# Altium footprint library PcbLib1.PcbLib: 11 footprints
Each footprint in its own frame and in the unit in brackets; x right, y up, seen from the top. Pads: shape width x height; smd on the part's side, far side on the other; paste and mask are expansions set on the pad; w line width, h text height; cw(c..) or ccw(c..) is an arc to the next point about the centre after c.
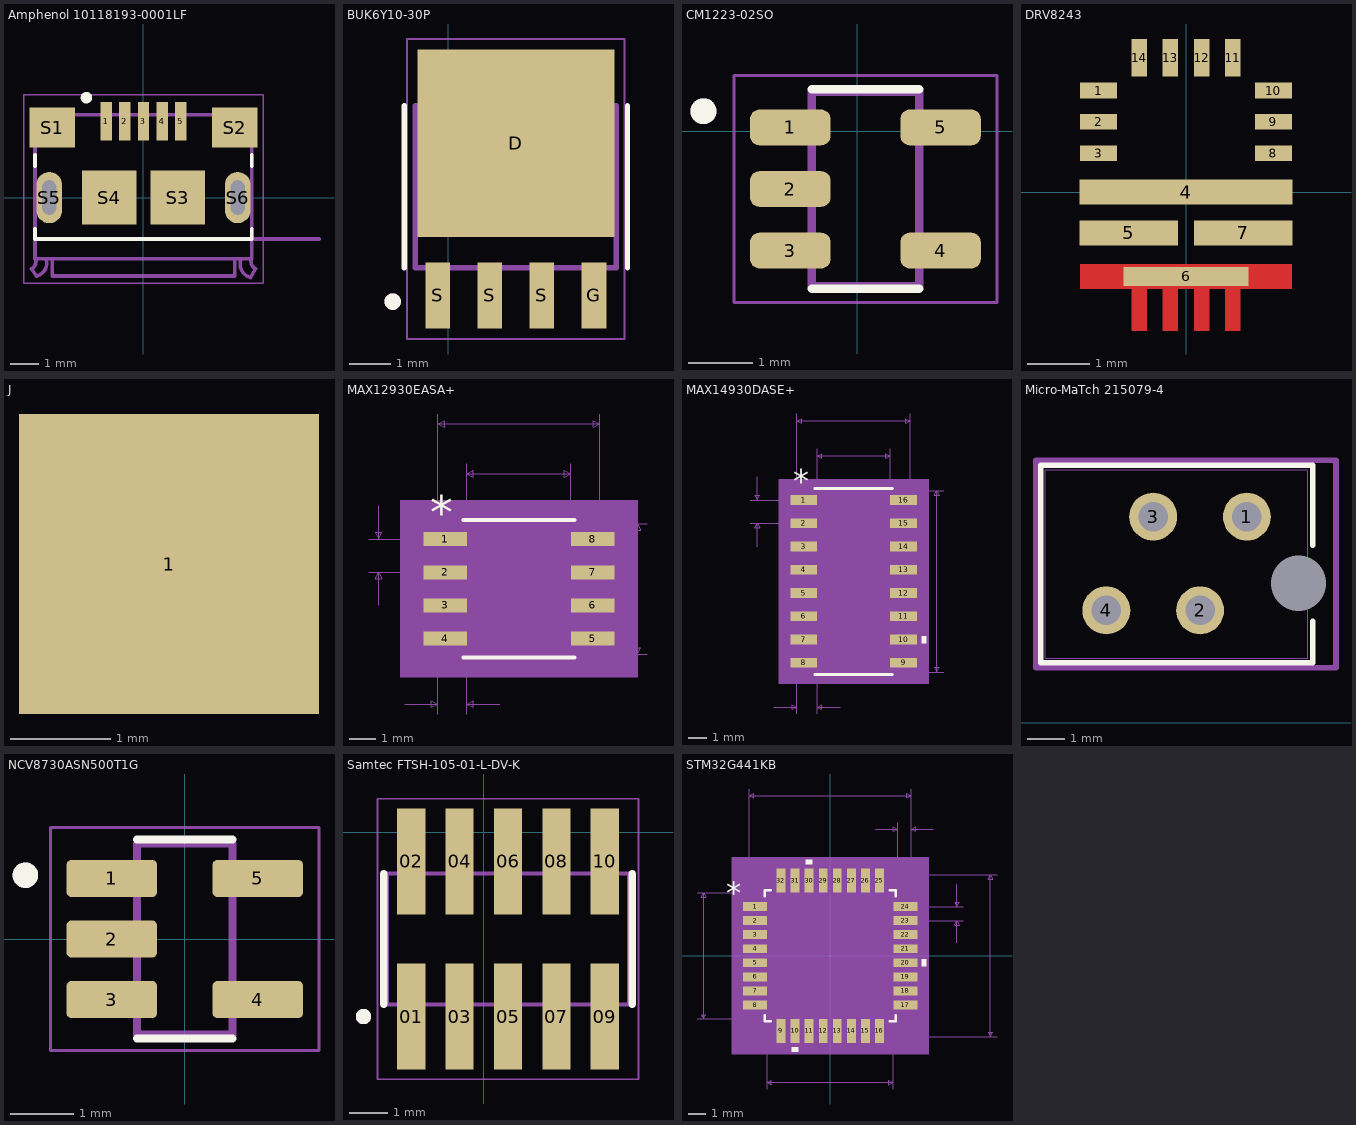
[diagram p0: the footprints below, top view; thin cyan lines are the x and y axes]

## Amphenol 10118193-0001LF [mm] "USB connector"
pads (13):
  rect 0.4x1.35 smd: 1(-1.3,2.675) 2(-0.65,2.675) 3(0,2.675) 4(0.65,2.675) 5(1.3,2.675)
  rect 1.6x1.4 smd: S1(-3.2,2.45) S2(3.2,2.45)
  rect 1.9x1.9 smd: S3(1.2,0) S4(-1.2,0)
  oval 0.9x1.8 hole 0.5 slot 1.2 at 90 deg: S5(-3.3,0) S6(3.3,0)
  round 0.5 hole 0.5 unplated: ""(-3.3,0) ""(3.3,0)
Top Overlay:
  circle w0.2: c-2,3.5 r0.1
  lines w0.127: -3.8,-1.45 3.8,-1.45 ; -3.8,-1.4 -3.8,-1.1 ; -3.8,1.1 -3.8,1.5 ; 3.8,-1.4 3.8,-1.1 ; 3.8,1.1 3.8,1.5
Mechanical 13:
  lines w0.127: -3.93,-2.5 -3.75,-2.75 ; -3.93,-2.5 ccw(c-4.065,-2.235) -3.8,-2.1 ; -3.746,-2.749 ccw(c-3.85,-2.3) -3.401,-2.196 ; -3.2,-2.2 -3.2,-2.75 3.2,-2.75 3.2,-2.2 ; 3.401,-2.198 ccw(c3.875,-2.325) 3.748,-2.799 ; 3.75,-2.8 3.93,-2.5 ; 3.8,-2.1 ccw(c4.065,-2.235) 3.93,-2.5 ; 6.15,-1.45 3.8,-1.45 ; -3.8,-2.1 -3.8,-2.15 3.8,-2.15 3.8,-1.45 ; -3.8,-2.1 -3.8,2.9 3.8,2.9 3.8,-1.45
  text "PCB END" at 4.75,-1.3 h0.41
Mechanical 15:
  lines w0.05: -4.2,-3 -4.2,3.6 4.2,3.6 4.2,-3 -4.2,-3
3D body "10118193-0001LF--3DModel-STEP-56544.STEP": height 2.81, standoff -0.79, extent -4.064,-2.789 3.796,2.921

## BUK6Y10-30P [mm]
pads (5):
  rect 4.8x4.58 smd paste-3: D(1.651,19.602)
  rect 0.6x1.62 smd: G(3.556,15.892) S(-0.254,15.892) S(1.016,15.892) S(2.286,15.892)
Top Overlay:
  circle w0.2: c-1.349,15.742 r0.1
  lines w0.127: -1.069,16.567 -1.069,20.517 ; 4.371,16.567 4.371,20.517
Top Paste:
  region: 3.621,17.742 2.081,17.742 2.081,19.172 3.621,19.172
  region: 1.221,17.742 -0.319,17.742 -0.319,19.172 1.221,19.172
  region: 3.621,20.032 2.081,20.032 2.081,21.462 3.621,21.462
  region: 1.221,20.032 -0.319,20.032 -0.319,21.462 1.221,21.462
Mechanical 13:
  circle w0.2: c-1.349,15.742 r0.1
  lines w0.127: -0.799,16.567 4.101,16.567 4.101,20.517 -0.799,20.517 -0.799,16.567
Mechanical 15:
  lines w0.05: -0.999,14.832 4.301,14.832 4.301,22.142 -0.999,22.142 -0.999,14.832

## CM1223-02SO [mm]
pads (5):
  rrect50% 1.24x0.55 smd: 1(-1.033,0.061) 2(-1.033,-0.889) 3(-1.033,-1.839) 4(1.287,-1.839) 5(1.287,0.061)
Top Overlay:
  circle w0.2: c-2.373,0.311 r0.1
  lines w0.127: -0.703,-2.428 0.957,-2.428 ; -0.703,0.65 0.957,0.65
Mechanical 13:
  circle w0.2: c-2.373,0.311 r0.1
  lines w0.127: -0.703,-2.389 0.957,-2.389 0.957,0.611 -0.703,0.611 -0.703,-2.389
Mechanical 15:
  lines w0.05: -1.903,-2.639 2.157,-2.639 2.157,0.861 -1.903,0.861 -1.903,-2.639
3D body "CM1223-02SO.STEP": height 1.31, standoff -0.14, extent -1.275,-2.35 1.525,0.55

## DRV8243 [mm]
pads (14):
  rect 0.6x0.25 smd: 1(-1.4,1.625) 2(-1.4,1.125) 3(-1.4,0.625) 8(1.4,0.625) 9(1.4,1.125) 10(1.4,1.625)
  rect 3.4x0.4 smd: 4(0,0)
  rect 1.575x0.4 smd mask+0.102: 5(-0.913,-0.65) 7(0.913,-0.65)
  rect 2x0.3 smd: 6(0,-1.35)
  rect 0.25x0.6 smd: 11(0.75,2.15) 12(0.25,2.15) 13(-0.25,2.15) 14(-0.75,2.15)
Top Layer:
  rectangle: -1.7,-1.55 1.7,-1.15
  rectangle: -0.875,-2.224 -0.625,-1.524
  rectangle: 0.625,-2.224 0.875,-1.524
  rectangle: -0.375,-2.224 -0.125,-1.524
  rectangle: 0.125,-2.224 0.375,-1.524
Mechanical 1:

## J [mm]
pads (1):
  rect 3x3 smd: 1(-46.863,-58.801)

## MAX12930EASA+ [mil]
pads (8):
  rect 65.5x21 smd paste+0 mask+0: 1(5223.75,4360) 2(5223.75,4310) 3(5223.75,4260) 4(5223.75,4210) 5(5446.25,4210) 6(5446.25,4260) 7(5446.25,4310) 8(5446.25,4360)
Top Overlay:
  lines w6: 5251.5,4181.5 5418.5,4181.5 ; 5251.5,4388.5 5418.5,4388.5
  text "*" at 5201.25,4376 h50
Mechanical 7:
  lines w1: 5108.75,4310 5223.75,4310 ; 5108.75,4360 5223.75,4360 ; 5123.75,4260 5123.75,4310 ; 5123.75,4410 5123.75,4360 ; 5163,4111.5 5213,4111.5 ; 5213,4096.5 5213,4285 5213,4548.5 ; 5256.5,4096.5 5256.5,4285 5256.5,4473.5 ; 5306.5,4111.5 5256.5,4111.5 ; 5335,4186.5 5528.5,4186.5 ; 5335,4383.5 5528.5,4383.5 ; 5413.5,4285 5413.5,4473.5 ; 5457,4285 5457,4548.5 ; 5123.75,4310 5128.75,4300 5118.75,4300 5123.75,4310 ; 5123.75,4360 5128.75,4370 5118.75,4370 5123.75,4360 ; 5213,4111.5 5203,4106.5 5203,4116.5 5213,4111.5 ; 5213,4533.5 5223,4528.5 5223,4538.5 5213,4533.5 ; 5213,4533.5 5457,4533.5 ; 5256.5,4111.5 5266.5,4106.5 5266.5,4116.5 5256.5,4111.5 ; 5256.5,4458.5 5266.5,4453.5 5266.5,4463.5 5256.5,4458.5 ; 5256.5,4458.5 5413.5,4458.5 ; 5413.5,4458.5 5403.5,4453.5 5403.5,4463.5 5413.5,4458.5 ; 5457,4533.5 5447,4528.5 5447,4538.5 5457,4533.5 ; 5513.5,4186.5 5518.5,4196.5 5508.5,4196.5 5513.5,4186.5 ; 5513.5,4186.5 5513.5,4383.5 ; 5513.5,4383.5 5518.5,4373.5 5508.5,4373.5 5513.5,4383.5
  text "0.05in/1.27mm" at 5153.5,4066.5 h25
  text "0.05in/1.27mm" at 4941.25,4322.5 h25
  text "0.197in/5.004mm" at 5533.5,4272.5 h25
  text "0.244in/6.198mm" at 5241.25,4553.5 h25
  text "0.157in/3.988mm" at 5241.25,4478.5 h25
  text "Alt 2 Padstyle: OX90Y60D30P" at 4997.5,3686.5 h50
  text "Alt 1 Padstyle: OX60Y90D30P" at 4997.5,3746.5 h50
  text "Pin One Padstyle: RX65p5Y21D0T" at 4960,3926.5 h50
  text "Default Padstyle: RX65p5Y21D0T" at 4960,3986.5 h50
Mechanical 13:
  region: 5514,4151.5 5156,4151.5 5156,4418.5 5514,4418.5
  lines w0: 5323,4383.5 ccw(c5335,4383.5) 5347,4383.5
  lines w1: 5213,4200.5 5256.5,4200.5 5256.5,4219.5 5213,4219.5 5213,4200.5 ; 5213,4250.5 5256.5,4250.5 5256.5,4269.5 5213,4269.5 5213,4250.5 ; 5213,4300.5 5256.5,4300.5 5256.5,4319.5 5213,4319.5 5213,4300.5 ; 5213,4350.5 5256.5,4350.5 5256.5,4369.5 5213,4369.5 5213,4350.5 ; 5256.5,4186.5 5256.5,4383.5 5413.5,4383.5 5413.5,4186.5 5256.5,4186.5 ; 5413.5,4200.5 5457,4200.5 5457,4219.5 5413.5,4219.5 5413.5,4200.5 ; 5413.5,4250.5 5457,4250.5 5457,4269.5 5413.5,4269.5 5413.5,4250.5 ; 5413.5,4300.5 5457,4300.5 5457,4319.5 5413.5,4319.5 5413.5,4300.5 ; 5413.5,4350.5 5457,4350.5 5457,4369.5 5413.5,4369.5 5413.5,4350.5
  text "*" at 5259,4330.5 h50
Mechanical 15:
  region: 5236.5,4179.5 5171,4179.5 5171,4390.5 5236.5,4390.5 5236.5,4403.5 5433.5,4403.5 5433.5,4390.5 5499,4390.5 5499,4179.5 5433.5,4179.5 5433.5,4166.5 5236.5,4166.5
  lines w6: 5171,4179.5 5236.5,4179.5 5236.5,4166.5 5433.5,4166.5 5433.5,4179.5 5499,4179.5 5499,4390.5 5433.5,4390.5 5433.5,4403.5 5236.5,4403.5 5236.5,4390.5 5171,4390.5 5171,4179.5
3D body "21-0041B_8_MXM.step": height 69.09, standoff 0, extent 5212.99,4186.5 5457.01,4383.5

## MAX14930DASE+ [mil]
pads (16):
  rect 57.55x21 smd paste+0 mask+0: 1(4962.73,3980) 2(4962.73,3930) 3(4962.73,3880) 4(4962.73,3830) 5(4962.73,3780) 6(4962.73,3730) 7(4962.73,3680) 8(4962.73,3630) 9(5177.27,3630) 10(5177.27,3680) 11(5177.27,3730) 12(5177.27,3780) 13(5177.27,3830) 14(5177.27,3880) 15(5177.27,3930) 16(5177.27,3980)
Top Overlay:
  region: 5216.05,3687.5 5226.05,3687.5 5226.05,3672.5 5216.05,3672.5
  lines w6: 4986.5,3605 5153.5,3605 ; 4986.5,4005 5153.5,4005
  text "*" at 4940.23,3996 h50
Mechanical 7:
  lines w1: 4847.73,3930 4962.73,3930 ; 4847.73,3980 4962.73,3980 ; 4862.73,3880 4862.73,3930 ; 4862.73,4030 4862.73,3980 ; 4897.95,3535 4947.95,3535 ; 4947.95,3520 4947.95,3805 4947.95,4165 ; 4991.5,3520 4991.5,3805 4991.5,4090 ; 5041.5,3535 4991.5,3535 ; 5070,3610 5263.5,3610 ; 5070,4000 5263.5,4000 ; 5148.5,3805 5148.5,4090 ; 5192.05,3805 5192.05,4165 ; 4862.73,3930 4857.73,3920 4867.73,3920 4862.73,3930 ; 4862.73,3980 4857.73,3990 4867.73,3990 4862.73,3980 ; 4947.95,3535 4937.95,3540 4937.95,3530 4947.95,3535 ; 4947.95,4150 5192.05,4150 ; 4947.95,4150 4957.95,4155 4957.95,4145 4947.95,4150 ; 4991.5,3535 5001.5,3540 5001.5,3530 4991.5,3535 ; 4991.5,4075 5148.5,4075 ; 4991.5,4075 5001.5,4080 5001.5,4070 4991.5,4075 ; 5148.5,4075 5138.5,4080 5138.5,4070 5148.5,4075 ; 5192.05,4150 5182.05,4155 5182.05,4145 5192.05,4150 ; 5248.5,3610 5248.5,4000 ; 5248.5,3610 5243.5,3620 5253.5,3620 5248.5,3610 ; 5248.5,4000 5243.5,3990 5253.5,3990 5248.5,4000
  text "Default Padstyle: RX57p55Y21D0T" at 4682.5,3410 h50
  text "Pin One Padstyle: RX57p55Y21D0T" at 4682.5,3350 h50
  text "Alt 1 Padstyle: OX60Y90D30P" at 4732.5,3170 h50
  text "Alt 2 Padstyle: OX90Y60D30P" at 4732.5,3110 h50
  text "0.157in/3.988mm" at 4976.25,4095 h25
  text "0.244in/6.2mm" at 4988.75,4170 h25
  text "0.39in/9.906mm" at 5268.5,3792.5 h25
  text "0.05in/1.27mm" at 4680.23,3942.5 h25
  text "0.05in/1.27mm" at 4888.48,3490 h25
Mechanical 13:
  region: 5231.05,3585 4908.95,3585 4908.95,4025 5231.05,4025
  lines w0: 5058,4000 ccw(c5070,4000) 5082,4000
  lines w1: 4947.95,3620.5 4947.95,3639.5 4991.5,3639.5 4991.5,3620.5 4947.95,3620.5 ; 4947.95,3670.5 4947.95,3689.5 4991.5,3689.5 4991.5,3670.5 4947.95,3670.5 ; 4947.95,3720.5 4947.95,3739.5 4991.5,3739.5 4991.5,3720.5 4947.95,3720.5 ; 4947.95,3770.5 4947.95,3789.5 4991.5,3789.5 4991.5,3770.5 4947.95,3770.5 ; 4947.95,3820.5 4947.95,3839.5 4991.5,3839.5 4991.5,3820.5 4947.95,3820.5 ; 4947.95,3870.5 4947.95,3889.5 4991.5,3889.5 4991.5,3870.5 4947.95,3870.5 ; 4947.95,3920.5 4947.95,3939.5 4991.5,3939.5 4991.5,3920.5 4947.95,3920.5 ; 4947.95,3970.5 4947.95,3989.5 4991.5,3989.5 4991.5,3970.5 4947.95,3970.5 ; 4991.5,3610 5148.5,3610 5148.5,4000 4991.5,4000 4991.5,3610 ; 5148.5,3620.5 5148.5,3639.5 5192.05,3639.5 5192.05,3620.5 5148.5,3620.5 ; 5148.5,3670.5 5148.5,3689.5 5192.05,3689.5 5192.05,3670.5 5148.5,3670.5 ; 5148.5,3720.5 5148.5,3739.5 5192.05,3739.5 5192.05,3720.5 5148.5,3720.5 ; 5148.5,3770.5 5148.5,3789.5 5192.05,3789.5 5192.05,3770.5 5148.5,3770.5 ; 5148.5,3820.5 5148.5,3839.5 5192.05,3839.5 5192.05,3820.5 5148.5,3820.5 ; 5148.5,3870.5 5148.5,3889.5 5192.05,3889.5 5192.05,3870.5 5148.5,3870.5 ; 5148.5,3920.5 5148.5,3939.5 5192.05,3939.5 5192.05,3920.5 5148.5,3920.5 ; 5148.5,3970.5 5148.5,3989.5 5192.05,3989.5 5192.05,3970.5 5148.5,3970.5
  text "*" at 4994,3947 h50
Mechanical 15:
  region: 4981.5,3609.5 4923.95,3609.5 4923.95,4000.5 4981.5,4000.5 4981.5,4010 5158.5,4010 5158.5,4000.5 5216.05,4000.5 5216.05,3609.5 5158.5,3609.5 5158.5,3600 4981.5,3600
  lines w6: 4923.95,3609.5 4923.95,4000.5 4981.5,4000.5 4981.5,4010 5158.5,4010 5158.5,4000.5 5216.05,4000.5 5216.05,3609.5 5158.5,3609.5 5158.5,3600 4981.5,3600 4981.5,3609.5 4923.95,3609.5
3D body "21-0041_S16+1_MXM.step": height 69.09, standoff 0, extent 4947.95,3610 5192.05,4000

## Micro-MaTch 215079-4 [mm]
pads (5):
  round 1.3 / inner round 1.321 / far side round 1.321 hole 0.8 mask+0: 1(384.175,5.588) 2(382.905,3.048) 3(381.635,5.588) 4(380.365,3.048)
  round 0 / inner round 1.524 / far side round 1.524 hole 1.5 unplated: 5(385.572,3.785)
Top Overlay:
  lines w0.152: 385.953,2.758 385.953,1.626 378.587,1.626 378.587,6.985 385.953,6.985 385.953,4.811
Mechanical 13:
  lines w0.025: 378.714,1.753 378.714,6.858 385.826,6.858 385.826,1.753 378.714,1.753
Mechanical 15:
  lines w0.152: 378.46,1.499 378.46,7.112 386.588,7.112 386.588,1.499 378.46,1.499
3D body "c-215079-4-t-3d.stp": height 3.51, standoff -3.64, extent 378.75,1.818 385.79,6.818

## NCV8730ASN500T1G [mm]
pads (5):
  rrect25% 1.42x0.58 smd: 1(-1.145,0.95) 2(-1.145,0) 3(-1.145,-0.95) 4(1.145,-0.95) 5(1.145,0.95)
Top Overlay:
  circle w0.2: c-2.5,1 r0.1
  lines w0.127: -0.75,-1.56 0.75,-1.56 ; -0.75,1.56 0.75,1.56
Mechanical 13:
  circle w0.2: c-2.5,1 r0.1
  lines w0.127: -0.75,-1.5 -0.75,1.5 0.75,1.5 0.75,-1.5 -0.75,-1.5
Mechanical 15:
  lines w0.05: -2.105,-1.75 -2.105,1.75 2.105,1.75 2.105,-1.75 -2.105,-1.75
3D body "step_temp.STEP": height 1.1, standoff 0, extent -1.345,-1.5 1.405,1.5

## Samtec FTSH-105-01-L-DV-K [mm]
pads (10):
  rect 0.74x2.79 smd: 01(-1.905,-4.829) 02(-1.905,-0.759) 03(-0.635,-4.829) 04(-0.635,-0.759) 05(0.635,-4.829) 06(0.635,-0.759) 07(1.905,-4.829) 08(1.905,-0.759) 09(3.175,-4.829) 10(3.175,-0.759)
Top Overlay:
  circle w0.2: c-3.155,-4.829 r0.1
  lines w0.2: -2.625,-4.509 -2.625,-1.079 ; 3.895,-4.509 3.895,-1.079
Mechanical 13:
  circle w0.2: c-3.155,-4.829 r0.1
  lines w0.1: -2.54,-4.509 3.81,-4.509 3.81,-1.079 -2.54,-1.079 -2.54,-4.509
Mechanical 15:
  lines w0.05: -2.79,-6.474 4.06,-6.474 4.06,0.886 -2.79,0.886 -2.79,-6.474
3D body "FTSH-105-01-L-DV-K.stp": height 5.73, standoff -0.39, extent -2.55,-5.725 3.8,0.117

## STM32G441KB [mm] "Microcontroller"
pads (32):
  rect 1.359x0.501 smd paste+0 mask+0: 1(-4.274,2.8) 2(-4.274,2) 3(-4.274,1.2) 4(-4.274,0.4) 5(-4.274,-0.4) 6(-4.274,-1.2) 7(-4.274,-2) 8(-4.274,-2.8) 17(4.274,-2.8) 18(4.274,-2) 19(4.274,-1.2) 20(4.274,-0.4) 21(4.274,0.4) 22(4.274,1.2) 23(4.274,2) 24(4.274,2.8)
  rect 0.501x1.359 smd paste+0 mask+0: 9(-2.8,-4.274) 10(-2,-4.274) 11(-1.2,-4.274) 12(-0.4,-4.274) 13(0.4,-4.274) 14(1.2,-4.274) 15(2,-4.274) 16(2.8,-4.274) 25(2.8,4.274) 26(2,4.274) 27(1.2,4.274) 28(0.4,4.274) 29(-0.4,4.274) 30(-1.2,4.274) 31(-2,4.274) 32(-2.8,4.274)
Top Overlay:
  region: -1.01,5.207 -1.391,5.207 -1.391,5.461 -1.01,5.461
  region: 5.207,-0.209 5.461,-0.209 5.461,-0.59 5.207,-0.59
  region: -1.81,-5.207 -2.191,-5.207 -2.191,-5.461 -1.81,-5.461
  lines w0.152: -3.721,-3.383 -3.721,-3.721 -3.383,-3.721 ; -3.721,3.383 -3.721,3.721 -3.383,3.721 ; 3.383,-3.721 3.721,-3.721 3.721,-3.383 ; 3.383,3.721 3.721,3.721 3.721,3.383
  text "*" at -5.905,2.946 h1.27
Mechanical 7:
  lines w0.025: -7.576,-3.594 -2.8,-3.594 ; -7.576,3.594 -2.8,3.594 ; -4.597,2.8 -4.597,9.481 ; -3.594,-7.576 -3.594,-2.8 ; 2.565,7.195 3.835,7.195 ; 2.8,-4.597 9.481,-4.597 ; 2.8,4.597 9.481,4.597 ; 3.594,-7.576 3.594,-2.8 ; 3.835,2.8 3.835,7.576 ; 4.274,2 7.576,2 ; 4.274,2.8 7.576,2.8 ; 4.597,7.576 4.597,2.8 4.597,9.481 ; 5.867,7.195 4.597,7.195 ; 7.195,0.73 7.195,2 ; 7.195,4.07 7.195,2.8 ; -7.195,-3.594 -7.068,-3.34 -7.322,-3.34 -7.195,-3.594 ; -7.195,-3.594 -7.195,3.594 ; -7.195,3.594 -7.068,3.34 -7.322,3.34 -7.195,3.594 ; -4.597,9.1 -4.343,8.973 -4.343,9.227 -4.597,9.1 ; -4.597,9.1 4.597,9.1 ; -3.594,-7.195 -3.34,-7.322 -3.34,-7.068 -3.594,-7.195 ; -3.594,-7.195 3.594,-7.195 ; 3.594,-7.195 3.34,-7.322 3.34,-7.068 3.594,-7.195 ; 3.835,7.195 3.581,7.068 3.581,7.322 3.835,7.195 ; 4.597,7.195 4.851,7.068 4.851,7.322 4.597,7.195 ; 4.597,9.1 4.343,8.973 4.343,9.227 4.597,9.1 ; 7.195,2 7.322,1.746 7.068,1.746 7.195,2 ; 7.195,2.8 7.322,3.054 7.068,3.054 7.195,2.8 ; 9.1,-4.597 9.227,-4.343 8.973,-4.343 9.1,-4.597 ; 9.1,-4.597 9.1,4.597 ; 9.1,4.597 9.227,4.343 8.973,4.343 9.1,4.597
  text "0.362in/9.195mm" at 9.608,-0.318 h0.64
  text "0.283in/7.188mm" at -12.465,-0.318 h0.64
  text "0.283in/7.188mm" at -2.381,-8.338 h0.64
  text "0.362in/9.195mm" at -2.381,9.608 h0.64
  text "0.03in/0.762mm" at 1.994,7.703 h0.64
  text "0.031in/0.8mm" at 7.703,2.083 h0.64
  text "Alt 2 Padstyle: OX90Y60D30P" at -8.572,-18.625 h1.27
  text "Alt 1 Padstyle: OX60Y90D30P" at -8.572,-17.101 h1.27
  text "Default Vert Padstyle: RX19p72Y53p5D0T" at -12.065,-12.529 h1.27
  text "Default Horiz Padstyle: RX19p72Y53p5D0T" at -12.383,-11.005 h1.27
Mechanical 13:
  region: 5.588,-5.588 -5.588,-5.588 -5.588,5.588 5.588,5.588
  lines w0.025: -3.594,2.324 -2.324,3.594 ; -4.597,-3.025 -3.594,-3.025 -3.594,-2.575 -4.597,-2.575 -4.597,-3.025 ; -4.597,-2.225 -3.594,-2.225 -3.594,-1.775 -4.597,-1.775 -4.597,-2.225 ; -4.597,-1.425 -3.594,-1.425 -3.594,-0.975 -4.597,-0.975 -4.597,-1.425 ; -4.597,-0.625 -3.594,-0.625 -3.594,-0.175 -4.597,-0.175 -4.597,-0.625 ; -4.597,0.175 -3.594,0.175 -3.594,0.625 -4.597,0.625 -4.597,0.175 ; -4.597,0.975 -3.594,0.975 -3.594,1.425 -4.597,1.425 -4.597,0.975 ; -4.597,1.775 -3.594,1.775 -3.594,2.225 -4.597,2.225 -4.597,1.775 ; -4.597,2.575 -3.594,2.575 -3.594,3.025 -4.597,3.025 -4.597,2.575 ; -3.594,-3.594 -3.594,3.594 3.594,3.594 3.594,-3.594 -3.594,-3.594 ; -3.025,-4.597 -2.575,-4.597 -2.575,-3.594 -3.025,-3.594 -3.025,-4.597 ; -3.025,3.594 -3.025,4.597 -2.575,4.597 -2.575,3.594 -3.025,3.594 ; -2.225,-4.597 -1.775,-4.597 -1.775,-3.594 -2.225,-3.594 -2.225,-4.597 ; -2.225,3.594 -2.225,4.597 -1.775,4.597 -1.775,3.594 -2.225,3.594 ; -1.425,-4.597 -0.975,-4.597 -0.975,-3.594 -1.425,-3.594 -1.425,-4.597 ; -1.425,3.594 -1.425,4.597 -0.975,4.597 -0.975,3.594 -1.425,3.594 ; -0.625,-4.597 -0.175,-4.597 -0.175,-3.594 -0.625,-3.594 -0.625,-4.597 ; -0.625,3.594 -0.625,4.597 -0.175,4.597 -0.175,3.594 -0.625,3.594 ; 0.175,-4.597 0.625,-4.597 0.625,-3.594 0.175,-3.594 0.175,-4.597 ; 0.175,3.594 0.175,4.597 0.625,4.597 0.625,3.594 0.175,3.594 ; 0.975,-4.597 1.425,-4.597 1.425,-3.594 0.975,-3.594 0.975,-4.597 ; 0.975,3.594 0.975,4.597 1.425,4.597 1.425,3.594 0.975,3.594 ; 1.775,-4.597 2.225,-4.597 2.225,-3.594 1.775,-3.594 1.775,-4.597 ; 1.775,3.594 1.775,4.597 2.225,4.597 2.225,3.594 1.775,3.594 ; 2.575,-4.597 3.025,-4.597 3.025,-3.594 2.575,-3.594 2.575,-4.597 ; 2.575,3.594 2.575,4.597 3.025,4.597 3.025,3.594 2.575,3.594 ; 3.594,-3.025 4.597,-3.025 4.597,-2.575 3.594,-2.575 3.594,-3.025 ; 3.594,-2.225 4.597,-2.225 4.597,-1.775 3.594,-1.775 3.594,-2.225 ; 3.594,-1.425 4.597,-1.425 4.597,-0.975 3.594,-0.975 3.594,-1.425 ; 3.594,-0.625 4.597,-0.625 4.597,-0.175 3.594,-0.175 3.594,-0.625 ; 3.594,0.175 4.597,0.175 4.597,0.625 3.594,0.625 3.594,0.175 ; 3.594,0.975 4.597,0.975 4.597,1.425 3.594,1.425 3.594,0.975 ; 3.594,1.775 4.597,1.775 4.597,2.225 3.594,2.225 3.594,1.775 ; 3.594,2.575 4.597,2.575 4.597,3.025 3.594,3.025 3.594,2.575
  text "*" at -3.531,2.565 h1.27
Mechanical 15:
  region: -3.304,-3.848 -3.848,-3.848 -3.848,-3.304 -5.207,-3.304 -5.207,3.304 -3.848,3.304 -3.848,3.848 -3.304,3.848 -3.304,5.207 3.304,5.207 3.304,3.848 3.848,3.848 3.848,3.304 5.207,3.304 5.207,-3.304 3.848,-3.304 3.848,-3.848 3.304,-3.848 3.304,-5.207 -3.304,-5.207
  lines w0.152: -5.207,-3.304 -5.207,3.304 -3.848,3.304 -3.848,3.848 -3.304,3.848 -3.304,5.207 3.304,5.207 3.304,3.848 3.848,3.848 3.848,3.304 5.207,3.304 5.207,-3.304 3.848,-3.304 3.848,-3.848 3.304,-3.848 3.304,-5.207 -3.304,-5.207 -3.304,-3.848 -3.848,-3.848 -3.848,-3.304 -5.207,-3.304
3D body "LQFP32_7X7_STM.step": height 1.6, standoff 0, extent -4.597,-4.597 4.597,4.597